# EAGLE library part IRS-5_10-Q12P-C (library IRS-5_10-Q12P-C)
Isolated DC/DC Converters 5V/10A 9-36Vin 1/16 brick +Log BP Source: Datasheet <https://www.mouser.ph/ProductDetail/Murata-Power-Solutions/IRS-5-10-Q12P-C?qs=PqoDHHvF64/RMwDquUqfvQ==>
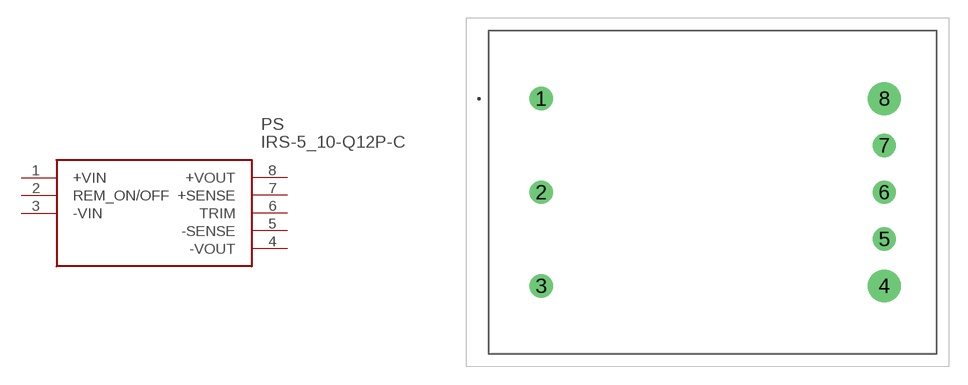
[diagram p0: symbol with the pads of IRS510Q12PC; footprint IRS510Q12PC]

Designator prefix PS

## IRS-5_10-Q12P-C (Description: Isolated DC/DC Converters 5V/10A 9-36Vin 1/16 brick +Log BP; Height: mm; Manufacturer_Name: Murata Electronics; Manufacturer_Part_Number: IRS-5/10-Q12P-C; Mouser_Part_Number: 580-IRS-5/10-Q12P-C; Mouser_Price-Stock: https://www.mouser.co.uk/ProductDetail/Murata-Power-Solutions/IRS-5-10-Q12P-C?qs=PqoDHHvF64%2FRMwDquUqfvQ%3D%3D)  [IRS510Q12PC]
1  +VIN
2  REM_ON/OFF
3  -VIN
4  -VOUT
5  -SENSE
6  TRIM
7  +SENSE
8  +VOUT

## Footprint IRS510Q12PC (pad centres in mm)
IRS-5/10-Q12P-C-1
drill 1.267 pad 1.9: 1 0,0; 2 0,-7.62; 3 0,-15.24; 5 27.94,-11.43; 6 27.94,-7.62; 7 27.94,-3.81
drill 1.775 pad 2.662: 4 27.94,-15.24; 8 27.94,0